# EAGLE library part REGULATOR:LT1506(BUCK,4.5A) (library QuantumOptics)
LT1506, LinTech buck regulator, internal switch 4.5A, adj or fixed +3.3V. http://www.linear.com/pc/downloadDocument.do?navId=H0,C1,C1003,C1042,C1032,P1910,D1356
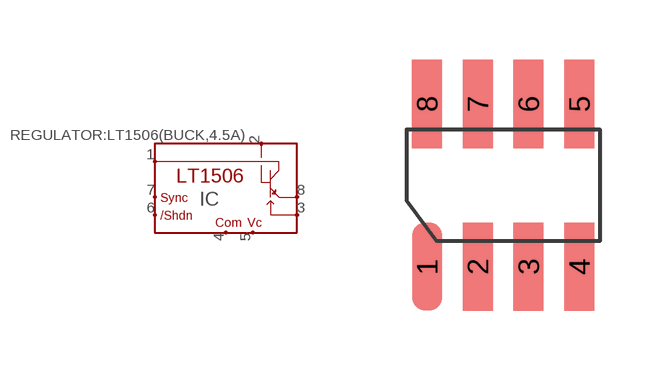
[diagram p69: symbol with the pads of SOIC-8; footprint SOIC-8]

Designator prefix IC

## REGULATOR:LT1506(BUCK,4.5A)  [SOIC-8]
1  VIN
2  BOOST
3  SENSE
4  COM
5  VC
6  /SHDN
7  /SYNC
8  VSW

## Footprint SOIC-8 (pad centres in mm)
SOIC-8 (AKA SO-8), pads on 0.050" grid.
smd 0.75 x 2.2: 1 -1.905,-2.032; 2 -0.635,-2.032; 3 0.635,-2.032; 4 1.905,-2.032; 5 1.905,2.032; 6 0.635,2.032; 7 -0.635,2.032; 8 -1.905,2.032